# Altium schematic symbol library IC_Test.SchLib: 23 symbols
Pins are listed as number, name and electrical type; pins without a type are passive.

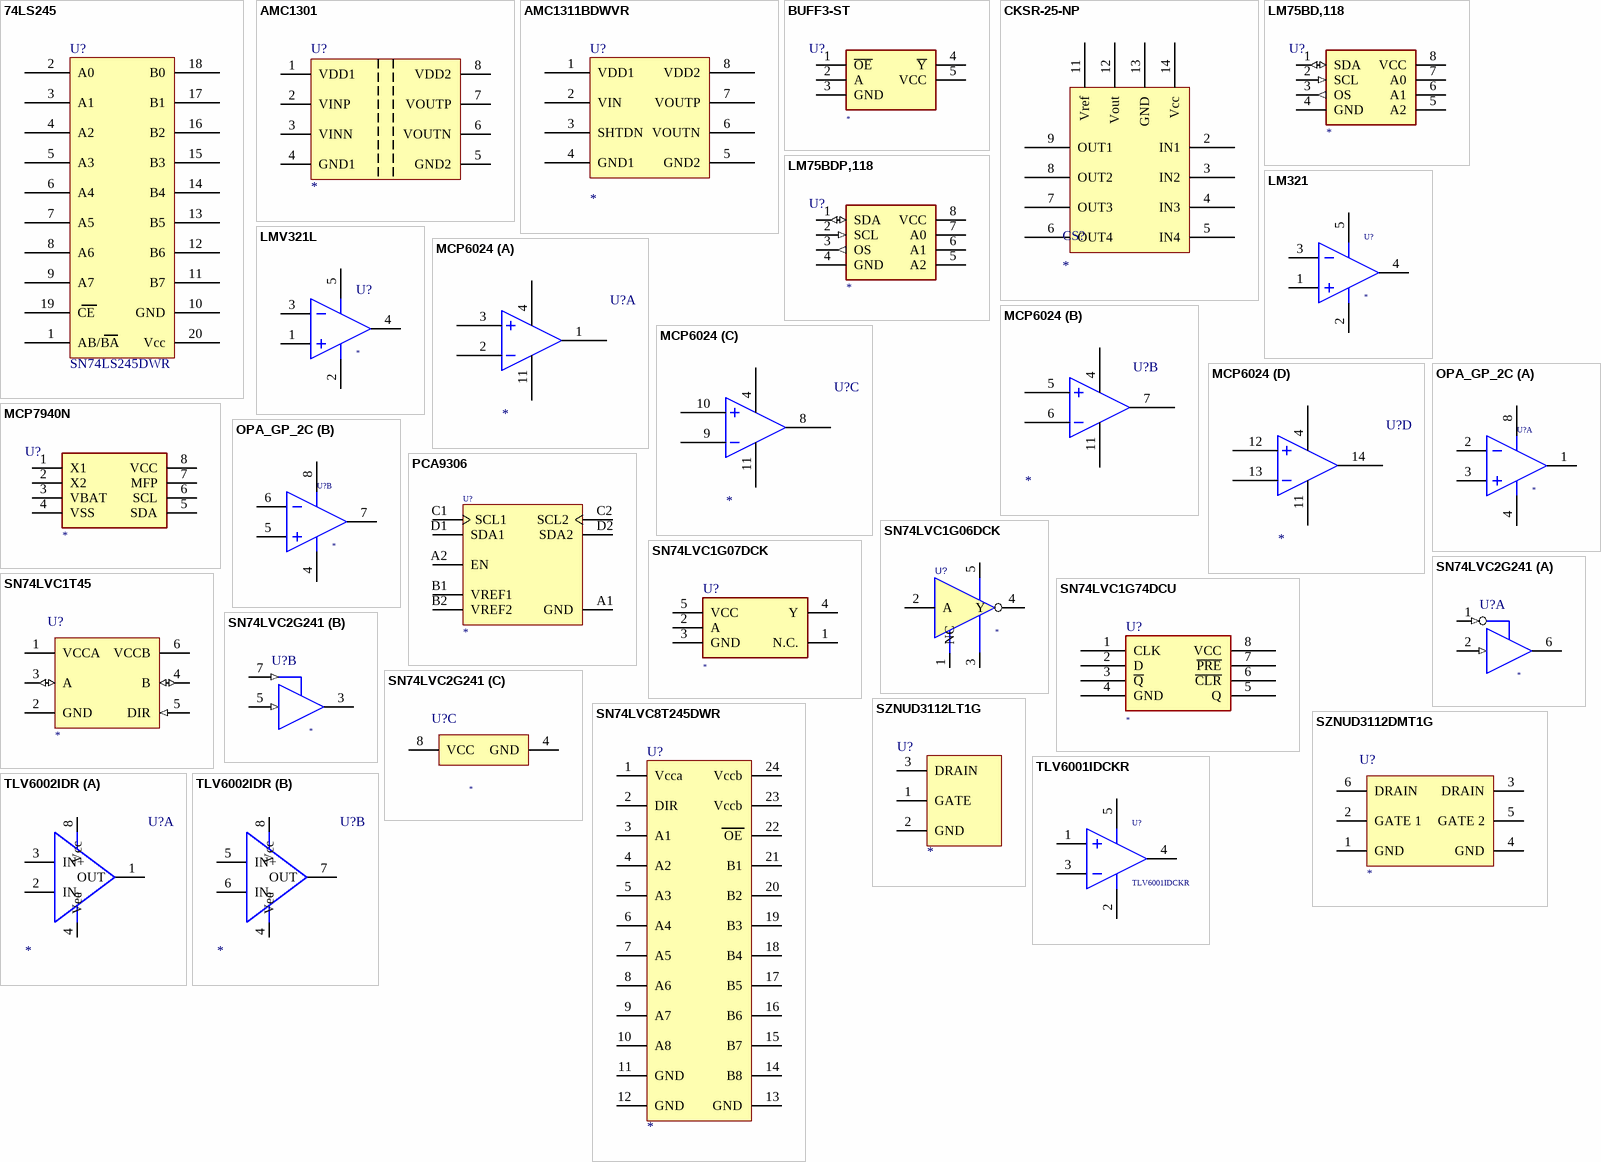
[diagram p0: symbols 74LS245 to TLV6002IDR]

## 74LS245
designator U?  Manufacturer Part Number: SN74LS245DWR  (hidden comment: *)
Bus Transceivers Octal Bus
pins: 1 AB/BA, 2 A0, 3 A1, 4 A2, 5 A3, 6 A4, 7 A5, 8 A6, 9 A7, 10 GND, 11 B7, 12 B6, 13 B5, 14 B4, 15 B3, 16 B2, 17 B1, 18 B0, 19 CE, 20 Vcc

## AMC1301
designator U?
Manufacturer Part Number: *
simulation model AMC1301 (Model Description)
pins: 1 VDD1, 2 VINP, 3 VINN, 4 GND1, 5 GND2, 6 VOUTN, 7 VOUTP, 8 VDD2

## AMC1311BDWVR
designator U?
Isolation Amplifiers; Manufacturer Part Number: *
simulation model AMC1311 ((C) Copyright 2018 Texas Instruments Incorporated. All rights reserved)
pins: 1 VDD1, 2 VIN, 3 SHTDN, 4 GND1, 5 GND2, 6 VOUTN, 7 VOUTP, 8 VDD2

## BUFF3-ST
designator U?
BUFFER TRI-ST; Manufacturer Part Number: *
pins: 1 ~{OE}, 2 A, 3 GND (power), 4 ~{Y}, 5 VCC (power)

## CKSR-25-NP
designator CS?
CURRENT SENSOR
pins: 2 IN1, 3 IN2, 4 IN3, 5 IN4, 6 OUT4, 7 OUT3, 8 OUT2, 9 OUT1, 11 Vref, 12 Vout, 13 GND, 14 Vcc

## LM75BD,118
designator U?
TEMP SENSE IC; Manufacturer Part Number: *
pins: 1 SDA (io), 2 SCL (in), 3 OS (out), 4 GND (power), 5 A2, 6 A1, 7 A0, 8 VCC (power)

## LM75BDP,118
designator U?
TEMP SENSE IC; Manufacturer Part Number: *
pins: 1 SDA (io), 2 SCL (in), 3 OS (out), 4 GND (power), 5 A2, 6 A1, 7 A0, 8 VCC (power)

## LM321
designator U?
OPAMP GP 1 CIRCUIT SOT23-5; Manufacturer Part Number: *
pins: 1 IN+, 2 VS-, 3 IN-, 4 OUT, 5 VS+

## LMV321L
designator U?
OPAMP GP 1 CIRCUIT SOT23-5; Manufacturer Part Number: *
pins: 1 IN+, 2 VS-, 3 IN-, 4 OUT, 5 VS+

## MCP6024
designator U?
IC OPAMP GP 4 CIRCUIT 14TSSOP; Manufacturer Part Number: *
simulation model MCP6021 (Model Description)
part A pins: 1 OUT_A, 2 IN_B-, 3 IN_A+, 4 Vdd, 11 Vss
part B pins: 4 Vdd, 5 IN_B+, 6 IN_B-, 7 OUT_B, 11 Vss
part C pins: 4 Vdd, 8 OUT_C, 9 IN_C-, 10 IN_C+, 11 Vss
part D pins: 4 Vdd, 11 Vss, 12 IN_D+, 13 IN_D-, 14 OUT_D

## MCP7940N
designator U?
RTC CLK/CALENDAR I2C; Manufacturer Part Number: *
pins: 1 X1, 2 X2, 3 VBAT, 4 VSS, 5 SDA, 6 SCL, 7 MFP, 8 VCC

## OPA_GP_2C
designator U?
OPAMP GP 2 CIRCUIT 8SOIC; Manufacturer Part Number: *
pins on every part: 4 V-, 8 V+
part A pins: 1 OUT A, 2 IN A-, 3 IN A+
part B pins: 5 IN B+, 6 IN B-, 7 OUT B

## PCA9306
designator U?
TRNSLTR BIDIRECTIONAL; Manufacturer Part Number: *
pins: A1 GND "Ground, 0  V", A2 EN "Switch enable input", B1 VREF1 "Low-voltage-side reference supply voltage for SCL1 and SDA1", B2 VREF2 "High-voltage-side reference supply voltage for SCL2 and SDA2", C1 SCL1 "Serial clock, low-voltage side", C2 SCL2 "Serial clock, high-voltage side", D1 SDA1 "Serial data, low-voltage side", D2 SDA2 "Serial data, high-voltage side"

## SN74LVC1G06DCK
designator U?
BUF INVERT 5.5V; Manufacturer Part Number: *
pins: 1 NC, 2 A, 3 GND, 4 Y, 5 VCC

## SN74LVC1G07DCK
designator U?
BUF NON-INVERT 5.5V; Manufacturer Part Number: *
pins: 1 N.C., 2 A, 3 GND, 4 Y, 5 VCC

## SN74LVC1G74DCU
designator U?
FF D-TYPE SNGL 1BIT; Manufacturer Part Number: *
pins: 1 CLK, 2 D, 3 ~{Q}, 4 GND, 5 Q, 6 ~{CLR}, 7 ~{PRE}, 8 VCC

## SN74LVC1T45
designator U?
TRNSLTR BIDIRECTIONAL; Manufacturer Part Number: *
footprint DCK0006A_L (SOT23, 6-Leads, Body 2.15x1.4mm, Pitch 0.65mm, IPC High Density)
pins: 1 VCCA (power), 2 GND (power), 3 A (io), 4 B (io), 5 DIR (in), 6 VCCB (power)

## SN74LVC2G241
designator U?
BUFFER NON-INVERT 5.5V; Manufacturer Part Number: *
part A pins: 1 1~{OE} (in), 2 1A (in), 6 1Y (hiz)
part B pins: 3 2Y (hiz), 5 2A (in), 7 2OE (in)
part C pins: 4 GND (power), 8 VCC (power)

## SN74LVC8T245DWR
designator U?
Manufacturer Part Number: *
pins: 1 Vcca, 2 DIR, 3 A1, 4 A2, 5 A3, 6 A4, 7 A5, 8 A6, 9 A7, 10 A8, 11 GND, 12 GND, 13 GND, 14 B8, 15 B7, 16 B6, 17 B5, 18 B4, 19 B3, 20 B2, 21 B1, 22 OE, 23 Vccb, 24 Vccb

## SZNUD3112DMT1G
designator U?
PMIC, Load Drivers; Manufacturer Part Number: *
footprint DCK0006A_L (SOT23, 6-Leads, Body 2.15x1.4mm, Pitch 0.65mm, IPC High Density)
pins: 1 GND, 2 GATE 1, 3 DRAIN, 4 GND, 5 GATE 2, 6 DRAIN

## SZNUD3112LT1G
designator U?
Manufacturer Part Number: *
pins: 1 GATE, 2 GND, 3 DRAIN

## TLV6001IDCKR
designator U?  Manufacturer Part Number: TLV6001IDCKR  (hidden comment: *)
pins: 1 IN+, 2 VS-, 3 IN-, 4 OUT, 5 VS+

## TLV6002IDR
designator U?
Manufacturer Part Number: *
part A pins: 1 OUT, 2 IN-, 3 IN+, 4 Vee, 8 Vcc
part B pins: 4 Vee, 5 IN+, 6 IN-, 7 OUT, 8 Vcc